# Altium footprint library CX3_Camera.PcbLib: 27 footprints (part 1 of 2)
Each footprint in its own frame and in the unit in brackets; x right, y up, seen from the top. Pads: shape width x height; smd on the part's side, far side on the other; paste and mask are expansions set on the pad; w line width, h text height; cw(c..) or ccw(c..) is an arc to the next point about the centre after c.
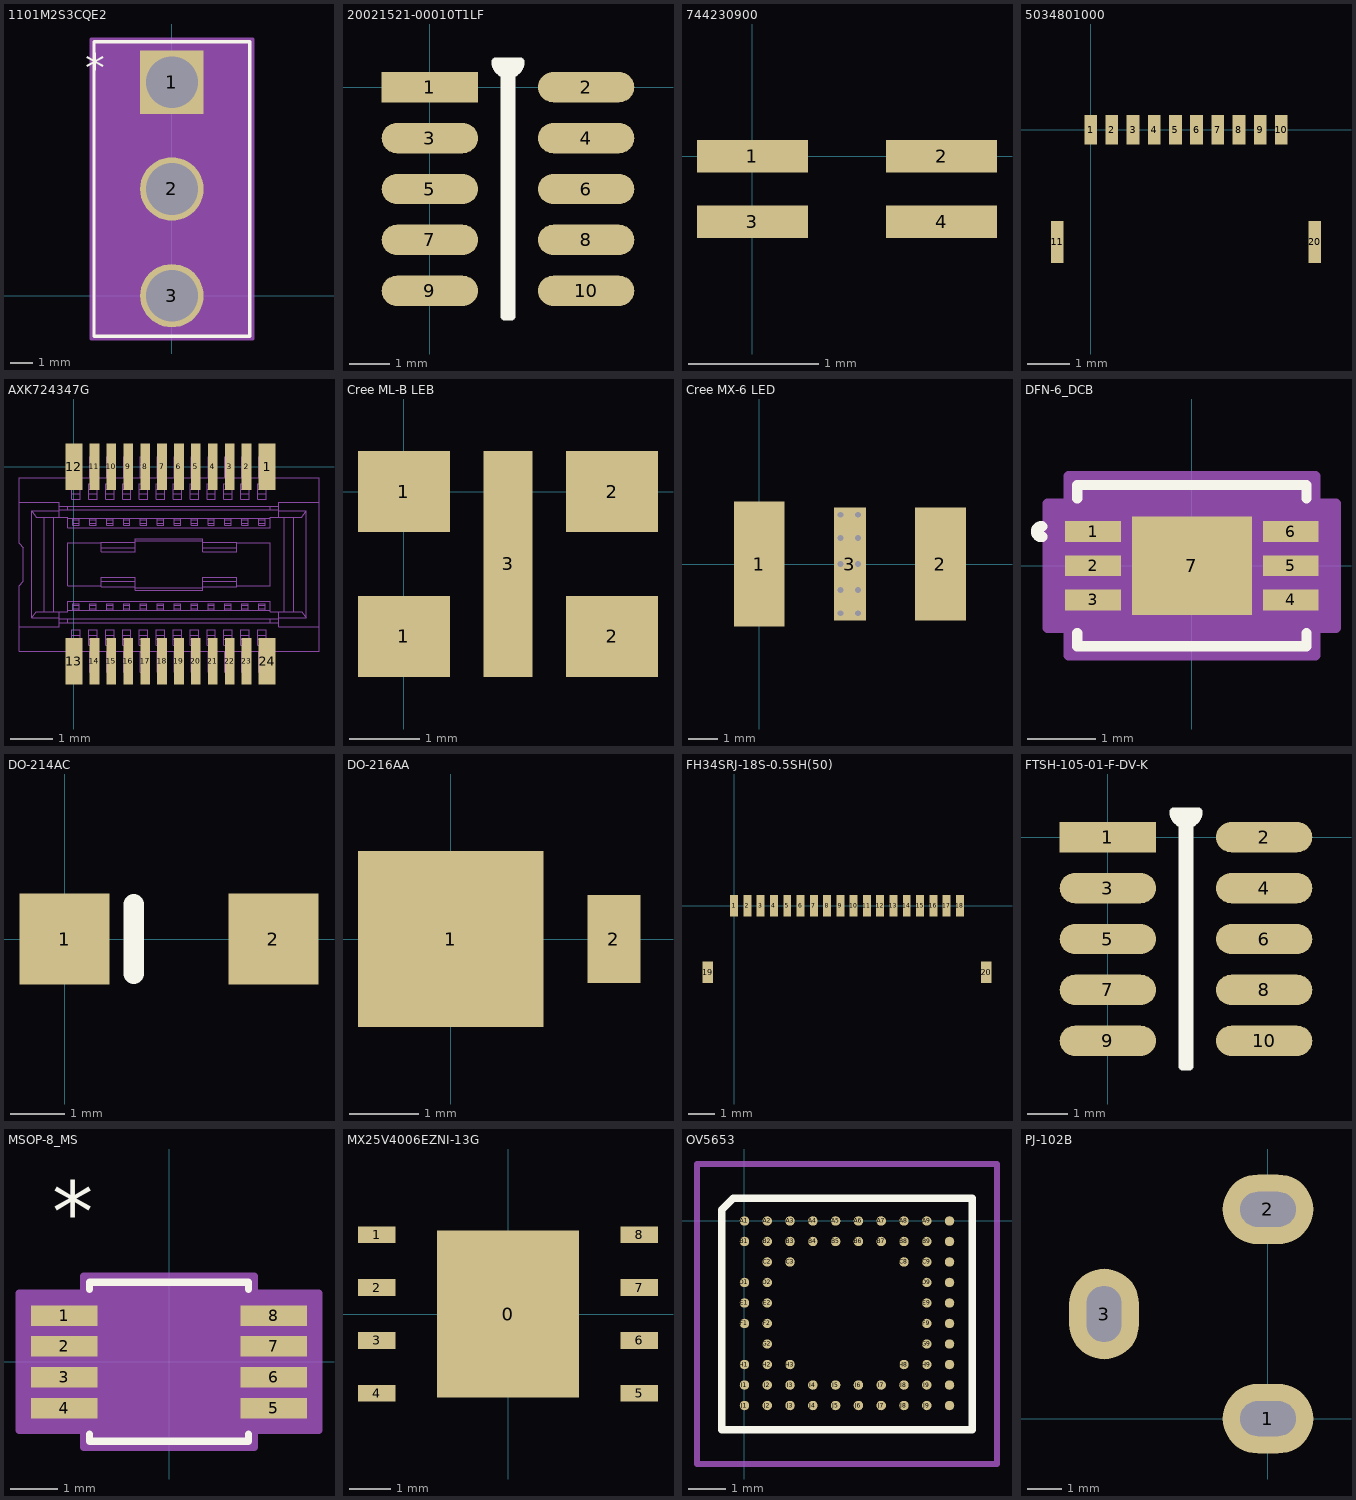
[diagram p0: the footprints below, top view; thin cyan lines are the x and y axes]

## 1101M2S3CQE2 [mil]
pads (3):
  rect 110x110 / inner round 60 / far side rect 110x110 hole 90: 1(0,370)
  round 110 / inner round 60 / far side round 110 hole 90: 2(0,185) 3(0,0)
Top Overlay:
  lines w6: -135,-70 135,-70 135,440 -135,440 -135,-70
  text "*" at -150,370 h50
Mechanical 13:
  region: 76,66.5 -76,66.5 -76,185 76,185
  text "*" at -115,370 h50
Mechanical 15:
  region: 140,-75 -140,-75 -140,445 140,445
  lines w6: -140,-75 140,-75 140,445 -140,445 -140,-75
3D body "110xm2s3c.stp": height 521.9, standoff -181.1, extent -138.14,-64.96 133.86,435.04
3D body: height 10, standoff 0, extent 0,0 10,10

## 20021521-00010T1LF [mm]
pads (10):
  rect 2.4x0.76 smd: 1(0,0)
  oval 2.4x0.76 smd: 2(3.9,0) 3(0,-1.27) 4(3.9,-1.27) 5(0,-2.54) 6(3.9,-2.54) 7(0,-3.81) 8(3.9,-3.81) 9(0,-5.08) 10(3.9,-5.08)
Top Overlay:
  lines w0.2: 1.632,0.635 ccw(c1.95,0.635) 2.267,0.635 1.865,0.635 1.865,-5.715 2.035,-5.715 2.035,0.635 1.632,0.635
3D body "20021521-00010XXLFc.stp": height 5.6, standoff 0, extent -0.85,-8.825 4.65,3.825

## 744230900 [mm] "Common Mode Choke"
pads (4):
  rect 0.85x0.25 smd: 1(0,0) 2(1.45,0) 3(0,-0.5) 4(1.45,-0.5)

## 5034801000 [mm]
pads (12):
  rect 0.3x0.7 smd: 1(0,0) 2(0.5,0) 3(1,0) 4(1.5,0) 5(2,0) 6(2.5,0) 7(3,0) 8(3.5,0) 9(4,0) 10(4.5,0)
  rect 0.3x1 smd: 11(-0.79,-2.65) 20(5.29,-2.65)
3D body "5034801000.stp": height 1.88, standoff -0.02, extent -1.15,-3.3 5.55,0.3

## AXK724347G [mm]
pads (24):
  rect 0.4x1.1 smd: 1(4.57,0) 12(0,0) 13(0,-4.6) 24(4.57,-4.6)
  rect 0.23x1.1 smd: 2(4.085,0) 3(3.685,0) 4(3.285,0) 5(2.885,0) 6(2.485,0) 7(2.085,0) 8(1.685,0) 9(1.285,0) 10(0.885,0) 11(0.485,0) 14(0.485,-4.6) 15(0.885,-4.6) 16(1.285,-4.6) 17(1.685,-4.6) 18(2.085,-4.6) 19(2.485,-4.6) 20(2.885,-4.6) 21(3.285,-4.6) 22(3.685,-4.6) 23(4.085,-4.6)
Mechanical 1:
  drawing of 836 lines, arcs and shapes, not listed
3D body "axk724347.stp": height 2.42, standoff 0, extent -1.25,-4.85 5.85,0.25

## Cree ML-B LEB [mm]
pads (5):
  rect 1.3x1.15 smd: 1(0,-2.05) 1(0,0) 2(2.95,-2.05) 2(2.95,0)
  rect 0.7x3.2 smd: 3(1.475,-1.025)
3D body "xlamp_ml-x.stp": height 1.15, standoff -0.05, extent -0.255,-2.769 3.195,0.731

## Cree MX-6 LED [mm]
pads (3):
  rect 1.75x4.3 smd mask+0.102: 1(0,0)
  rect 1.75x3.9 smd: 2(6.25,0)
  rect 1.1x3.9 smd: 3(3.125,0)
via 2.8,-1.7 diameter 0.457 hole 0.203
via 3.4,-1.7 diameter 0.457 hole 0.203
via 2.8,-0.9 diameter 0.457 hole 0.203
via 3.4,-0.9 diameter 0.457 hole 0.203
via 2.8,1.7 diameter 0.457 hole 0.203
via 3.4,1.7 diameter 0.457 hole 0.203
via 2.8,0 diameter 0.457 hole 0.203
via 3.4,0 diameter 0.457 hole 0.203
via 2.8,0.9 diameter 0.457 hole 0.203
via 3.4,0.9 diameter 0.457 hole 0.203
3D body "xlamp_mx-x.stp": height 1.3, standoff -0.05, extent -0.125,-2.5 6.375,2.5

## DFN-6_DCB [mil]
pads (7):
  rect 32x12 smd: 1(-57,19.68) 2(-57,0) 3(-57,-19.68) 4(57,-19.68) 5(57,0) 6(57,19.68)
  rect 69x57 smd paste-34: 7(0,0)
Top Overlay:
  lines w6: -86.1,16.78 cw(c-86.84,19.68) -86.1,22.59 ; -66,-38.78 -66,-46.5 66,-46.5 66,-38.78 ; -66,38.78 -66,46.5 66,46.5 66,38.78
Top Paste:
  region: 34.5,28.5 -34.5,28.5 -34.5,-28.5 34.5,-28.5
Mechanical 13:
  lines w0: -12,41.5 ccw(c0,41.5) 12,41.5
Mechanical 15:
  region: -71,-35.69 -83,-35.69 -83,35.69 -71,35.69 -71,51.5 71,51.5 71,35.69 83,35.69 83,-35.69 71,-35.69 71,-51.5 -71,-51.5
  lines w6: -83,-35.69 -83,35.69 -71,35.69 -71,51.5 71,51.5 71,35.69 83,35.69 83,-35.69 71,-35.69 71,-51.5 -71,-51.5 -71,-35.69 -83,-35.69
3D body "DFN-6_DCB.stp": height 32.1, standoff 0, extent -63,-41.5 63,41.5

## DO-214AC [mm]
height 1.905
pads (2):
  rect 1.65x1.67 smd: 1(0,0) 2(3.83,0)
Top Overlay:
  lines w0.381: 1.27,-0.635 1.27,0.635

## DO-216AA [mm] "DO-216AA"
pads (2):
  rect 2.67x2.54 smd: 1(0,0)
  rect 0.762x1.27 smd: 2(2.351,0)

## FH34SRJ-18S-0.5SH(50) [mm]
pads (20):
  rect 0.3x0.8 smd: 1(0,0) 2(0.5,0) 3(1,0) 4(1.5,0) 5(2,0) 6(2.5,0) 7(3,0) 8(3.5,0) 9(4,0) 10(4.5,0) 11(5,0) 12(5.5,0) 13(6,0) 14(6.5,0) 15(7,0) 16(7.5,0) 17(8,0) 18(8.5,0)
  rect 0.4x0.8 smd: 19(-1,-2.5) 20(9.5,-2.5)
3D body "FH34SRJ-18S-0.5SH.stp": height 1, standoff 0, extent -1.3,-2.9 9.7,0.9

## FTSH-105-01-F-DV-K [mm]
pads (10):
  rect 2.4x0.76 smd: 1(0,0)
  oval 2.4x0.76 smd: 2(3.9,0) 3(0,-1.27) 4(3.9,-1.27) 5(0,-2.54) 6(3.9,-2.54) 7(0,-3.81) 8(3.9,-3.81) 9(0,-5.08) 10(3.9,-5.08)
Top Overlay:
  lines w0.2: 1.632,0.635 ccw(c1.95,0.635) 2.267,0.635 1.865,0.635 1.865,-5.715 2.035,-5.715 2.035,0.635 1.632,0.635
3D body "FTSH-105-01-F-DV-K.stp": height 6.11, standoff -0.01, extent -1.056,-5.715 4.786,0.635

## MSOP-8_MS [mil]
pads (8):
  rect 55x17 smd: 1(-87,38.39) 2(-87,12.8) 3(-87,-12.8) 4(-87,-38.39) 5(87,-38.39) 6(87,-12.8) 7(87,12.8) 8(87,38.39)
Top Overlay:
  lines w6: -66,-59.99 -66,-66 66,-66 66,-59.99 ; -66,59.99 -66,66 66,66 66,59.99
  text "*" at -97,100.39 h50
Mechanical 13:
  lines w0: -12,61 ccw(c0,61) 12,61
Mechanical 15:
  region: -71,-56.89 -124.5,-56.89 -124.5,56.89 -71,56.89 -71,71 71,71 71,56.89 124.5,56.89 124.5,-56.89 71,-56.89 71,-71 -71,-71
  lines w6: -124.5,-56.89 -124.5,56.89 -71,56.89 -71,71 71,71 71,56.89 124.5,56.89 124.5,-56.89 71,-56.89 71,-71 -71,-71 -71,-56.89 -124.5,-56.89
3D body "MSOP-8_MS.stp": height 43.1, standoff 0, extent -100.5,-61 100.5,61

## MX25V4006EZNI-13G [mm]
pads (9):
  rect 3.4x4 smd: 0(0,0)
  rect 0.9x0.4 smd: 1(-3.15,1.905) 2(-3.15,0.635) 3(-3.15,-0.635) 4(-3.15,-1.905) 5(3.15,-1.905) 6(3.15,-0.635) 7(3.15,0.635) 8(3.15,1.905)

## OV5653 [mm] "OmniVision image sensor"
pads (66):
  round 0.25 smd: A1(0,0) A2(0.6,0) A3(1.2,0) A4(1.8,0) A5(2.4,0) A6(3,0) A7(3.6,0) A8(4.2,0) A9(4.8,0) A10(5.4,0) B1(0,-0.54) B2(0.6,-0.54) B3(1.2,-0.54) B4(1.8,-0.54) B5(2.4,-0.54) B6(3,-0.54) B7(3.6,-0.54) B8(4.2,-0.54) B9(4.8,-0.54) B10(5.4,-0.54) C2(0.6,-1.08) C3(1.2,-1.08) C8(4.2,-1.08) C9(4.8,-1.08) C10(5.4,-1.08) D1(0,-1.62) D2(0.6,-1.62) D9(4.8,-1.62) D10(5.4,-1.62) E1(0,-2.16) E2(0.6,-2.16) E9(4.8,-2.16) E10(5.4,-2.16) F1(0,-2.7) F2(0.6,-2.7) F9(4.8,-2.7) F10(5.4,-2.7) G2(0.6,-3.24) G9(4.8,-3.24) G10(5.4,-3.24) H1(0,-3.78) H2(0.6,-3.78) H3(1.2,-3.78) H8(4.2,-3.78) H9(4.8,-3.78) H10(5.4,-3.78) I1(0,-4.32) I2(0.6,-4.32) I3(1.2,-4.32) I4(1.8,-4.32) I5(2.4,-4.32) I6(3,-4.32) I7(3.6,-4.32) I8(4.2,-4.32) I9(4.8,-4.32) I10(5.4,-4.32) J1(0,-4.86) J2(0.6,-4.86) J3(1.2,-4.86) J4(1.8,-4.86) J5(2.4,-4.86) J6(3,-4.86) J7(3.6,-4.86) J8(4.2,-4.86) J9(4.8,-4.86) J10(5.4,-4.86)
Top Overlay:
  lines w0.2: -0.6,-5.5 6,-5.5 6,0.6 -0.3,0.6 -0.6,0.3 -0.6,-5.5
Mechanical 1:
  lines w0.147: -1.25,-6.4 -1.25,1.5 6.65,1.5 6.65,-6.4 -1.25,-6.4
3D body "OV5653.STEP": height 0.75, standoff 0, extent -0.552,-5.402 5.953,0.603

## PJ-102B [mm]
pads (3):
  oval 2.6x2 hole 1 slot 1.6 at 0 deg: 1(0,0) 2(0,6)
  oval 2x2.6 hole 1 slot 1.6 at 90 deg: 3(-4.7,3)
3D body "pj-102b.stp": height 11.5, standoff -3, extent -4.9,-0.6 4.5,13.8